# Altium schematic symbol library SCH - CONNECTORS - SAMTEC - IPL1-105-01-L-S-K.SCHLIB: 1 symbol
Pins are listed as number, name and electrical type; pins without a type are passive.

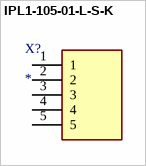
[diagram p0: symbol IPL1-105-01-L-S-K]

## IPL1-105-01-L-S-K
designator X?
Connector
pins: 1, 2, 3, 4, 5